# Altium integrated library Passive.IntLib: 1327 symbols (part 2 of 10)
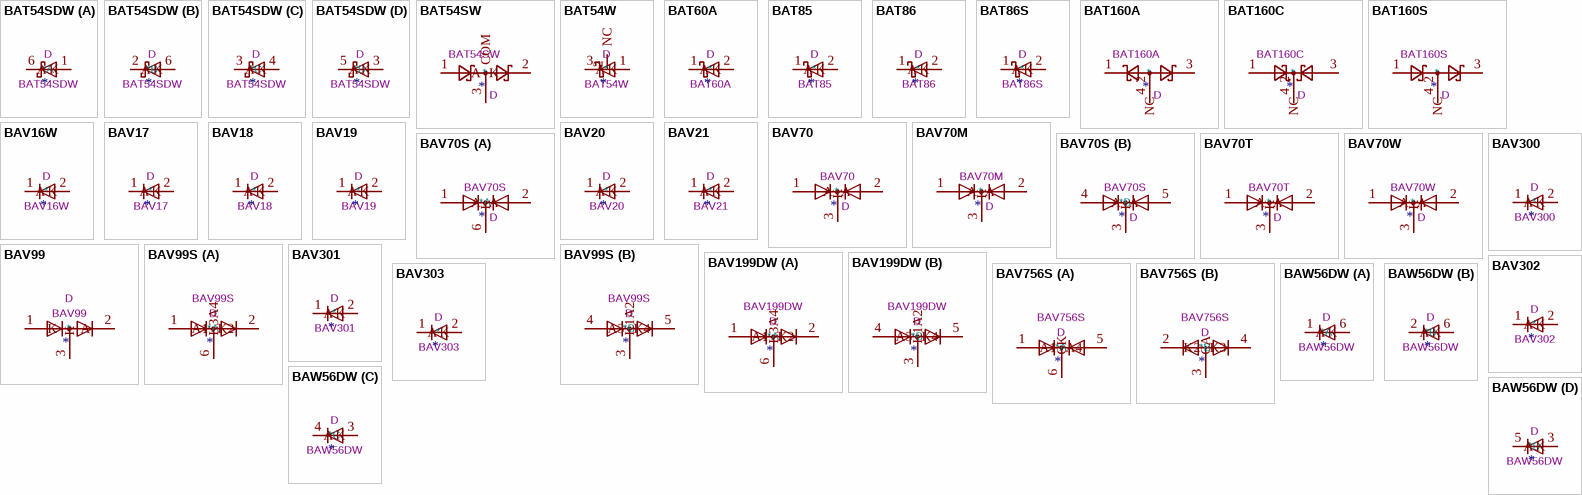
[diagram p42: symbols BAT54SDW to BAW56DW]

## BAV301
designator *  value BAV301  Reference: D
100V 0.25A Switching Diode, High Voltage, MicroMELF; Sim.Pins: 1=K 2=A; ki_fp_filters: D*MicroMELF*; Footprint: Diode_SMD:D_MicroMELF; Datasheet: http://www.vishay.com/docs/85545/bav300.pdf; Description_: 100V 0.25A Switching Diode, High Voltage, MicroMELF; Sim.Device: D; ki_keywords: diode
pins: 1 K, 2 A

## BAV302
designator *  value BAV302  Reference: D
150V 0.25A Switching Diode, High Voltage, MicroMELF; Sim.Pins: 1=K 2=A; ki_fp_filters: D*MicroMELF*; Footprint: Diode_SMD:D_MicroMELF; Datasheet: http://www.vishay.com/docs/85545/bav300.pdf; Description_: 150V 0.25A Switching Diode, High Voltage, MicroMELF; Sim.Device: D; ki_keywords: diode
pins: 1 K, 2 A

## BAV303
designator *  value BAV303  Reference: D
200V 0.25A Switching Diode, High Voltage, MicroMELF; Sim.Pins: 1=K 2=A; ki_fp_filters: D*MicroMELF*; Footprint: Diode_SMD:D_MicroMELF; Datasheet: http://www.vishay.com/docs/85545/bav300.pdf; Description_: 200V 0.25A Switching Diode, High Voltage, MicroMELF; Sim.Device: D; ki_keywords: diode
pins: 1 K, 2 A

## BAV756S
designator *  value BAV756S  Reference: D
High-speed switching diodes, dual common anode/common cathode, SOT-363; ki_keywords: Diode; ki_fp_filters: SOT?363*; Footprint: Package_TO_SOT_SMD:SOT-363_SC-70-6; Datasheet: https://assets.nexperia.com/documents/data-sheet/BAV756S_BAW56_SER.pdf; Description_: High-speed switching diodes, dual common anode/common cathode, SOT-363
part A pins: 1 A1, 5 A4, 6 CK
part B pins: 2 K2, 3 CA, 4 K3

## BAW56DW
designator *  value BAW56DW  Reference: D
Switching diode array 2 pair Com A; ki_fp_filters: SOT?363*; Footprint: Package_TO_SOT_SMD:SOT-363_SC-70-6; Datasheet: http://www.diodes.com/datasheets/ds30146.pdf; Description_: Switching diode array 2 pair Com A; ki_keywords: diode
part A pins: 1 K, 6 A
part B pins: 2 K, 6 A
part C pins: 3 A, 4 K
part D pins: 3 A, 5 K

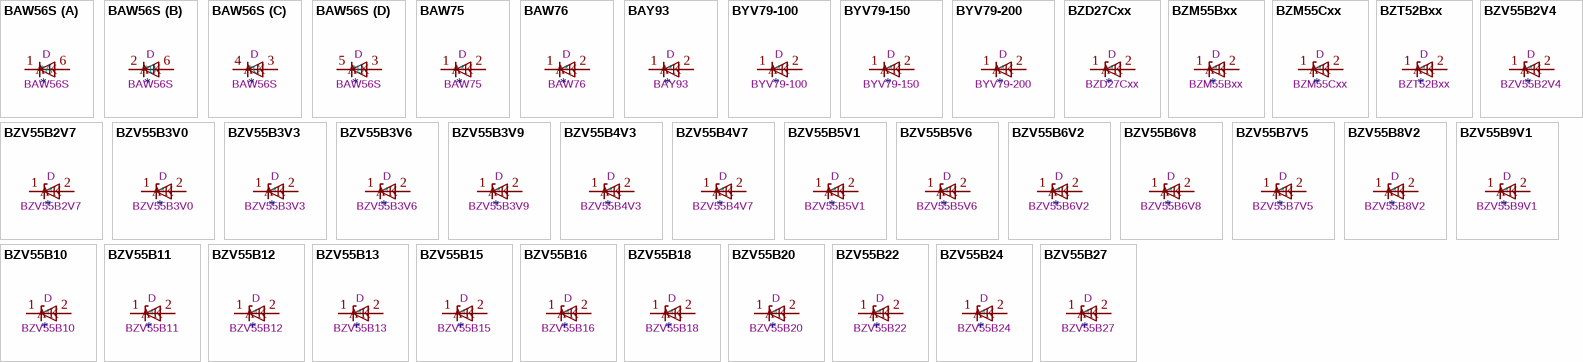
[diagram p4: symbols BAW56S to BZV55B27]

## BAW56S
designator *  value BAW56S  Reference: D
High Speed Switching Diode Array 2 pair Com A; ki_fp_filters: SOT?363*; Footprint: Package_TO_SOT_SMD:SOT-363_SC-70-6; Datasheet: https://assets.nexperia.com/documents/data-sheet/BAV756S_BAW56_SER.pdf; Description_: High Speed Switching Diode Array 2 pair Com A; ki_keywords: diode
part A pins: 1 K, 6 A
part B pins: 2 K, 6 A
part C pins: 3 A, 4 K
part D pins: 3 A, 5 K

## BAW75
designator *  value BAW75  Reference: D
25V 0.45A Small Signal Switching Diode, DO-35; Sim.Pins: 1=K 2=A; ki_fp_filters: D*DO?35*; Footprint: Diode_THT:D_DO-35_SOD27_P7.62mm_Horizontal; Datasheet: http://www.vishay.com/docs/85550/baw75.pdf; Description_: 25V 0.45A Small Signal Switching Diode, DO-35; Sim.Device: D; ki_keywords: diode
pins: 1 K, 2 A

## BAW76
designator *  value BAW76  Reference: D
50V 0.3A Small Signal Fast Switching Diode, DO-35; Sim.Pins: 1=K 2=A; ki_fp_filters: D*DO?35*; Footprint: Diode_THT:D_DO-35_SOD27_P7.62mm_Horizontal; Datasheet: http://www.vishay.com/docs/85551/baw76.pdf; Description_: 50V 0.3A Small Signal Fast Switching Diode, DO-35; Sim.Device: D; ki_keywords: diode
pins: 1 K, 2 A

## BAY93
designator *  value BAY93  Reference: D
20V 0.115A Very Fast Switching Diode, DO-35; Sim.Pins: 1=K 2=A; ki_fp_filters: D*DO?35*; Footprint: Diode_THT:D_DO-35_SOD27_P7.62mm_Horizontal; Datasheet: https://cdn-reichelt.de/documents/datenblatt/A400/BAY93_TFK.pdf; Description_: 20V 0.115A Very Fast Switching Diode, DO-35; Sim.Device: D; ki_keywords: diode
pins: 1 K, 2 A

## BYV79-100
designator *  value BYV79-100  Reference: D
100V 14A Ultrafast Rectifier Diode, TO-220; Sim.Pins: 1=K 2=A; ki_fp_filters: TO?220*; Footprint: Package_TO_SOT_THT:TO-220-2_Vertical; Datasheet: http://pdf.datasheetcatalog.com/datasheet/philips/BYV79-100.pdf; Description_: 100V 14A Ultrafast Rectifier Diode, TO-220; Sim.Device: D; ki_keywords: diode
pins: 1 K, 2 A

## BYV79-150
designator *  value BYV79-150  Reference: D
150V 14A Ultrafast Rectifier Diode, TO-220; Sim.Pins: 1=K 2=A; ki_fp_filters: TO?220*; Footprint: Package_TO_SOT_THT:TO-220-2_Vertical; Datasheet: http://pdf.datasheetcatalog.com/datasheet/philips/BYV79-100.pdf; Description_: 150V 14A Ultrafast Rectifier Diode, TO-220; Sim.Device: D; ki_keywords: diode
pins: 1 K, 2 A

## BYV79-200
designator *  value BYV79-200  Reference: D
200V 14A Ultrafast Rectifier Diode, TO-220; Sim.Pins: 1=K 2=A; ki_fp_filters: TO?220*; Footprint: Package_TO_SOT_THT:TO-220-2_Vertical; Datasheet: http://pdf.datasheetcatalog.com/datasheet/philips/BYV79-100.pdf; Description_: 200V 14A Ultrafast Rectifier Diode, TO-220; Sim.Device: D; ki_keywords: diode
pins: 1 K, 2 A

## BZD27Cxx
designator *  value BZD27Cxx  Reference: D
800mW Zener Diode, 3.6-200V, SMF; ki_fp_filters: D*SMF*; Footprint: Diode_SMD:D_SMF; Datasheet: https://www.vishay.com/docs/85153/bzd27series.pdf; Description_: 800mW Zener Diode, 3.6-200V, SMF; ki_keywords: zener diode
pins: 1 K, 2 A

## BZM55Bxx
designator *  value BZM55Bxx  Reference: D
500mW Zener Diode, 2%, MicroMELF; ki_fp_filters: D*MicroMELF*; Footprint: Diode_SMD:D_MicroMELF; Datasheet: http://www.vishay.com/docs/85597/bzm55.pdf; Description_: 500mW Zener Diode, 2%, MicroMELF; ki_keywords: zener diode
pins: 1 K, 2 A

## BZM55Cxx
designator *  value BZM55Cxx  Reference: D
500mW Zener Diode, 6%, MicroMELF; ki_fp_filters: D*MicroMELF*; Footprint: Diode_SMD:D_MicroMELF; Datasheet: http://www.vishay.com/docs/85597/bzm55.pdf; Description_: 500mW Zener Diode, 6%, MicroMELF; ki_keywords: zener diode
pins: 1 K, 2 A

## BZT52Bxx
designator *  value BZT52Bxx  Reference: D
500mW Zener Diode, SOD-123F; ki_fp_filters: D?SOD?123F*; Footprint: Diode_SMD:D_SOD-123F; Datasheet: https://diotec.com/tl_files/diotec/files/pdf/datasheets/bzt52b2v4.pdf; Description_: 500mW Zener Diode, SOD-123F; ki_keywords: zener diode
pins: 1 K, 2 A

## BZV55B2V4
designator *  value BZV55B2V4  Reference: D
2.4V, 500mW, 2%, Zener diode, MiniMELF; ki_fp_filters: D*MiniMELF*; Footprint: Diode_SMD:D_MiniMELF; Datasheet: https://assets.nexperia.com/documents/data-sheet/BZV55_SER.pdf; Description_: 2.4V, 500mW, 2%, Zener diode, MiniMELF; ki_keywords: zener diode
pins: 1 K, 2 A

## BZV55B2V7
designator *  value BZV55B2V7  Reference: D
2.7V, 500mW, 2%, Zener diode, MiniMELF; ki_fp_filters: D*MiniMELF*; Footprint: Diode_SMD:D_MiniMELF; Datasheet: https://assets.nexperia.com/documents/data-sheet/BZV55_SER.pdf; Description_: 2.7V, 500mW, 2%, Zener diode, MiniMELF; ki_keywords: zener diode
pins: 1 K, 2 A

## BZV55B3V0
designator *  value BZV55B3V0  Reference: D
3.0V, 500mW, 2%, Zener diode, MiniMELF; ki_fp_filters: D*MiniMELF*; Footprint: Diode_SMD:D_MiniMELF; Datasheet: https://assets.nexperia.com/documents/data-sheet/BZV55_SER.pdf; Description_: 3.0V, 500mW, 2%, Zener diode, MiniMELF; ki_keywords: zener diode
pins: 1 K, 2 A

## BZV55B3V3
designator *  value BZV55B3V3  Reference: D
3.3V, 500mW, 2%, Zener diode, MiniMELF; ki_fp_filters: D*MiniMELF*; Footprint: Diode_SMD:D_MiniMELF; Datasheet: https://assets.nexperia.com/documents/data-sheet/BZV55_SER.pdf; Description_: 3.3V, 500mW, 2%, Zener diode, MiniMELF; ki_keywords: zener diode
pins: 1 K, 2 A

## BZV55B3V6
designator *  value BZV55B3V6  Reference: D
3.6V, 500mW, 2%, Zener diode, MiniMELF; ki_fp_filters: D*MiniMELF*; Footprint: Diode_SMD:D_MiniMELF; Datasheet: https://assets.nexperia.com/documents/data-sheet/BZV55_SER.pdf; Description_: 3.6V, 500mW, 2%, Zener diode, MiniMELF; ki_keywords: zener diode
pins: 1 K, 2 A

## BZV55B3V9
designator *  value BZV55B3V9  Reference: D
3.9V, 500mW, 2%, Zener diode, MiniMELF; ki_fp_filters: D*MiniMELF*; Footprint: Diode_SMD:D_MiniMELF; Datasheet: https://assets.nexperia.com/documents/data-sheet/BZV55_SER.pdf; Description_: 3.9V, 500mW, 2%, Zener diode, MiniMELF; ki_keywords: zener diode
pins: 1 K, 2 A

## BZV55B4V3
designator *  value BZV55B4V3  Reference: D
4.3V, 500mW, 2%, Zener diode, MiniMELF; ki_fp_filters: D*MiniMELF*; Footprint: Diode_SMD:D_MiniMELF; Datasheet: https://assets.nexperia.com/documents/data-sheet/BZV55_SER.pdf; Description_: 4.3V, 500mW, 2%, Zener diode, MiniMELF; ki_keywords: zener diode
pins: 1 K, 2 A

## BZV55B4V7
designator *  value BZV55B4V7  Reference: D
4.7V, 500mW, 2%, Zener diode, MiniMELF; ki_fp_filters: D*MiniMELF*; Footprint: Diode_SMD:D_MiniMELF; Datasheet: https://assets.nexperia.com/documents/data-sheet/BZV55_SER.pdf; Description_: 4.7V, 500mW, 2%, Zener diode, MiniMELF; ki_keywords: zener diode
pins: 1 K, 2 A

## BZV55B5V1
designator *  value BZV55B5V1  Reference: D
5.1V, 500mW, 2%, Zener diode, MiniMELF; ki_fp_filters: D*MiniMELF*; Footprint: Diode_SMD:D_MiniMELF; Datasheet: https://assets.nexperia.com/documents/data-sheet/BZV55_SER.pdf; Description_: 5.1V, 500mW, 2%, Zener diode, MiniMELF; ki_keywords: zener diode
pins: 1 K, 2 A

## BZV55B5V6
designator *  value BZV55B5V6  Reference: D
5.6V, 500mW, 2%, Zener diode, MiniMELF; ki_fp_filters: D*MiniMELF*; Footprint: Diode_SMD:D_MiniMELF; Datasheet: https://assets.nexperia.com/documents/data-sheet/BZV55_SER.pdf; Description_: 5.6V, 500mW, 2%, Zener diode, MiniMELF; ki_keywords: zener diode
pins: 1 K, 2 A

## BZV55B6V2
designator *  value BZV55B6V2  Reference: D
6.2V, 500mW, 2%, Zener diode, MiniMELF; ki_fp_filters: D*MiniMELF*; Footprint: Diode_SMD:D_MiniMELF; Datasheet: https://assets.nexperia.com/documents/data-sheet/BZV55_SER.pdf; Description_: 6.2V, 500mW, 2%, Zener diode, MiniMELF; ki_keywords: zener diode
pins: 1 K, 2 A

## BZV55B6V8
designator *  value BZV55B6V8  Reference: D
6.8V, 500mW, 2%, Zener diode, MiniMELF; ki_fp_filters: D*MiniMELF*; Footprint: Diode_SMD:D_MiniMELF; Datasheet: https://assets.nexperia.com/documents/data-sheet/BZV55_SER.pdf; Description_: 6.8V, 500mW, 2%, Zener diode, MiniMELF; ki_keywords: zener diode
pins: 1 K, 2 A

## BZV55B7V5
designator *  value BZV55B7V5  Reference: D
7.5V, 500mW, 2%, Zener diode, MiniMELF; ki_fp_filters: D*MiniMELF*; Footprint: Diode_SMD:D_MiniMELF; Datasheet: https://assets.nexperia.com/documents/data-sheet/BZV55_SER.pdf; Description_: 7.5V, 500mW, 2%, Zener diode, MiniMELF; ki_keywords: zener diode
pins: 1 K, 2 A

## BZV55B8V2
designator *  value BZV55B8V2  Reference: D
8.2V, 500mW, 2%, Zener diode, MiniMELF; ki_fp_filters: D*MiniMELF*; Footprint: Diode_SMD:D_MiniMELF; Datasheet: https://assets.nexperia.com/documents/data-sheet/BZV55_SER.pdf; Description_: 8.2V, 500mW, 2%, Zener diode, MiniMELF; ki_keywords: zener diode
pins: 1 K, 2 A

## BZV55B9V1
designator *  value BZV55B9V1  Reference: D
9.1V, 500mW, 2%, Zener diode, MiniMELF; ki_fp_filters: D*MiniMELF*; Footprint: Diode_SMD:D_MiniMELF; Datasheet: https://assets.nexperia.com/documents/data-sheet/BZV55_SER.pdf; Description_: 9.1V, 500mW, 2%, Zener diode, MiniMELF; ki_keywords: zener diode
pins: 1 K, 2 A

## BZV55B10
designator *  value BZV55B10  Reference: D
10V, 500mW, 2%, Zener diode, MiniMELF; ki_fp_filters: D*MiniMELF*; Footprint: Diode_SMD:D_MiniMELF; Datasheet: https://assets.nexperia.com/documents/data-sheet/BZV55_SER.pdf; Description_: 10V, 500mW, 2%, Zener diode, MiniMELF; ki_keywords: zener diode
pins: 1 K, 2 A

## BZV55B11
designator *  value BZV55B11  Reference: D
11V, 500mW, 2%, Zener diode, MiniMELF; ki_fp_filters: D*MiniMELF*; Footprint: Diode_SMD:D_MiniMELF; Datasheet: https://assets.nexperia.com/documents/data-sheet/BZV55_SER.pdf; Description_: 11V, 500mW, 2%, Zener diode, MiniMELF; ki_keywords: zener diode
pins: 1 K, 2 A

## BZV55B12
designator *  value BZV55B12  Reference: D
12V, 500mW, 2%, Zener diode, MiniMELF; ki_fp_filters: D*MiniMELF*; Footprint: Diode_SMD:D_MiniMELF; Datasheet: https://assets.nexperia.com/documents/data-sheet/BZV55_SER.pdf; Description_: 12V, 500mW, 2%, Zener diode, MiniMELF; ki_keywords: zener diode
pins: 1 K, 2 A

## BZV55B13
designator *  value BZV55B13  Reference: D
13V, 500mW, 2%, Zener diode, MiniMELF; ki_fp_filters: D*MiniMELF*; Footprint: Diode_SMD:D_MiniMELF; Datasheet: https://assets.nexperia.com/documents/data-sheet/BZV55_SER.pdf; Description_: 13V, 500mW, 2%, Zener diode, MiniMELF; ki_keywords: zener diode
pins: 1 K, 2 A

## BZV55B15
designator *  value BZV55B15  Reference: D
15V, 500mW, 2%, Zener diode, MiniMELF; ki_fp_filters: D*MiniMELF*; Footprint: Diode_SMD:D_MiniMELF; Datasheet: https://assets.nexperia.com/documents/data-sheet/BZV55_SER.pdf; Description_: 15V, 500mW, 2%, Zener diode, MiniMELF; ki_keywords: zener diode
pins: 1 K, 2 A

## BZV55B16
designator *  value BZV55B16  Reference: D
16V, 500mW, 2%, Zener diode, MiniMELF; ki_fp_filters: D*MiniMELF*; Footprint: Diode_SMD:D_MiniMELF; Datasheet: https://assets.nexperia.com/documents/data-sheet/BZV55_SER.pdf; Description_: 16V, 500mW, 2%, Zener diode, MiniMELF; ki_keywords: zener diode
pins: 1 K, 2 A

## BZV55B18
designator *  value BZV55B18  Reference: D
18V, 500mW, 2%, Zener diode, MiniMELF; ki_fp_filters: D*MiniMELF*; Footprint: Diode_SMD:D_MiniMELF; Datasheet: https://assets.nexperia.com/documents/data-sheet/BZV55_SER.pdf; Description_: 18V, 500mW, 2%, Zener diode, MiniMELF; ki_keywords: zener diode
pins: 1 K, 2 A

## BZV55B20
designator *  value BZV55B20  Reference: D
20V, 500mW, 2%, Zener diode, MiniMELF; ki_fp_filters: D*MiniMELF*; Footprint: Diode_SMD:D_MiniMELF; Datasheet: https://assets.nexperia.com/documents/data-sheet/BZV55_SER.pdf; Description_: 20V, 500mW, 2%, Zener diode, MiniMELF; ki_keywords: zener diode
pins: 1 K, 2 A

## BZV55B22
designator *  value BZV55B22  Reference: D
22V, 500mW, 2%, Zener diode, MiniMELF; ki_fp_filters: D*MiniMELF*; Footprint: Diode_SMD:D_MiniMELF; Datasheet: https://assets.nexperia.com/documents/data-sheet/BZV55_SER.pdf; Description_: 22V, 500mW, 2%, Zener diode, MiniMELF; ki_keywords: zener diode
pins: 1 K, 2 A

## BZV55B24
designator *  value BZV55B24  Reference: D
24V, 500mW, 2%, Zener diode, MiniMELF; ki_fp_filters: D*MiniMELF*; Footprint: Diode_SMD:D_MiniMELF; Datasheet: https://assets.nexperia.com/documents/data-sheet/BZV55_SER.pdf; Description_: 24V, 500mW, 2%, Zener diode, MiniMELF; ki_keywords: zener diode
pins: 1 K, 2 A

## BZV55B27
designator *  value BZV55B27  Reference: D
2.4V, 500mW, 2%, Zener diode, MiniMELF; ki_fp_filters: D*MiniMELF*; Footprint: Diode_SMD:D_MiniMELF; Datasheet: https://assets.nexperia.com/documents/data-sheet/BZV55_SER.pdf; Description_: 2.4V, 500mW, 2%, Zener diode, MiniMELF; ki_keywords: zener diode
pins: 1 K, 2 A

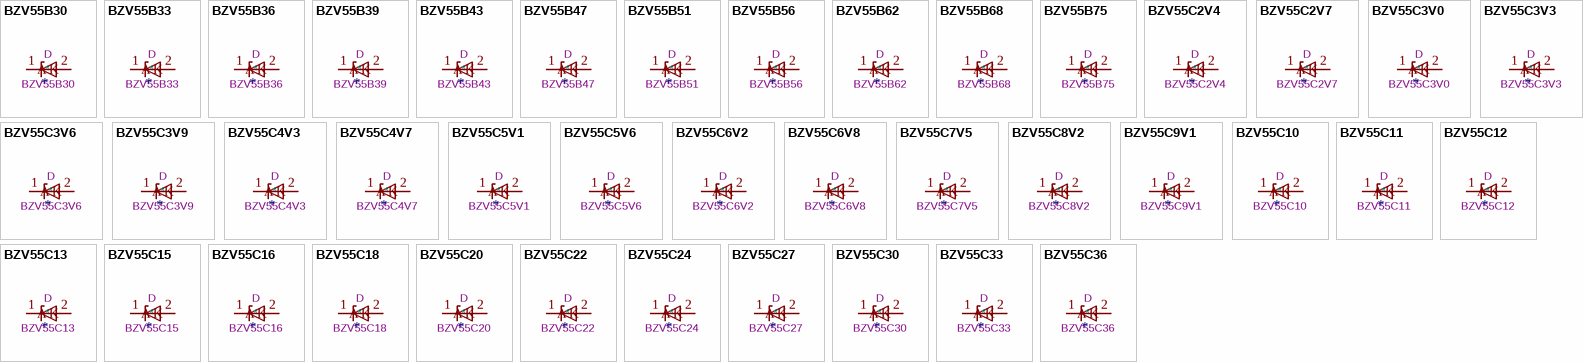
[diagram p5: symbols BZV55B30 to BZV55C36]

## BZV55B30
designator *  value BZV55B30  Reference: D
30V, 500mW, 2%, Zener diode, MiniMELF; ki_fp_filters: D*MiniMELF*; Footprint: Diode_SMD:D_MiniMELF; Datasheet: https://assets.nexperia.com/documents/data-sheet/BZV55_SER.pdf; Description_: 30V, 500mW, 2%, Zener diode, MiniMELF; ki_keywords: zener diode
pins: 1 K, 2 A

## BZV55B33
designator *  value BZV55B33  Reference: D
33V, 500mW, 2%, Zener diode, MiniMELF; ki_fp_filters: D*MiniMELF*; Footprint: Diode_SMD:D_MiniMELF; Datasheet: https://assets.nexperia.com/documents/data-sheet/BZV55_SER.pdf; Description_: 33V, 500mW, 2%, Zener diode, MiniMELF; ki_keywords: zener diode
pins: 1 K, 2 A

## BZV55B36
designator *  value BZV55B36  Reference: D
36V, 500mW, 2%, Zener diode, MiniMELF; ki_fp_filters: D*MiniMELF*; Footprint: Diode_SMD:D_MiniMELF; Datasheet: https://assets.nexperia.com/documents/data-sheet/BZV55_SER.pdf; Description_: 36V, 500mW, 2%, Zener diode, MiniMELF; ki_keywords: zener diode
pins: 1 K, 2 A

## BZV55B39
designator *  value BZV55B39  Reference: D
39V, 500mW, 2%, Zener diode, MiniMELF; ki_fp_filters: D*MiniMELF*; Footprint: Diode_SMD:D_MiniMELF; Datasheet: https://assets.nexperia.com/documents/data-sheet/BZV55_SER.pdf; Description_: 39V, 500mW, 2%, Zener diode, MiniMELF; ki_keywords: zener diode
pins: 1 K, 2 A

## BZV55B43
designator *  value BZV55B43  Reference: D
43V, 500mW, 2%, Zener diode, MiniMELF; ki_fp_filters: D*MiniMELF*; Footprint: Diode_SMD:D_MiniMELF; Datasheet: https://assets.nexperia.com/documents/data-sheet/BZV55_SER.pdf; Description_: 43V, 500mW, 2%, Zener diode, MiniMELF; ki_keywords: zener diode
pins: 1 K, 2 A

## BZV55B47
designator *  value BZV55B47  Reference: D
47V, 500mW, 2%, Zener diode, MiniMELF; ki_fp_filters: D*MiniMELF*; Footprint: Diode_SMD:D_MiniMELF; Datasheet: https://assets.nexperia.com/documents/data-sheet/BZV55_SER.pdf; Description_: 47V, 500mW, 2%, Zener diode, MiniMELF; ki_keywords: zener diode
pins: 1 K, 2 A

## BZV55B51
designator *  value BZV55B51  Reference: D
51V, 500mW, 2%, Zener diode, MiniMELF; ki_fp_filters: D*MiniMELF*; Footprint: Diode_SMD:D_MiniMELF; Datasheet: https://assets.nexperia.com/documents/data-sheet/BZV55_SER.pdf; Description_: 51V, 500mW, 2%, Zener diode, MiniMELF; ki_keywords: zener diode
pins: 1 K, 2 A

## BZV55B56
designator *  value BZV55B56  Reference: D
56V, 500mW, 2%, Zener diode, MiniMELF; ki_fp_filters: D*MiniMELF*; Footprint: Diode_SMD:D_MiniMELF; Datasheet: https://assets.nexperia.com/documents/data-sheet/BZV55_SER.pdf; Description_: 56V, 500mW, 2%, Zener diode, MiniMELF; ki_keywords: zener diode
pins: 1 K, 2 A

## BZV55B62
designator *  value BZV55B62  Reference: D
62V, 500mW, 2%, Zener diode, MiniMELF; ki_fp_filters: D*MiniMELF*; Footprint: Diode_SMD:D_MiniMELF; Datasheet: https://assets.nexperia.com/documents/data-sheet/BZV55_SER.pdf; Description_: 62V, 500mW, 2%, Zener diode, MiniMELF; ki_keywords: zener diode
pins: 1 K, 2 A

## BZV55B68
designator *  value BZV55B68  Reference: D
68V, 500mW, 2%, Zener diode, MiniMELF; ki_fp_filters: D*MiniMELF*; Footprint: Diode_SMD:D_MiniMELF; Datasheet: https://assets.nexperia.com/documents/data-sheet/BZV55_SER.pdf; Description_: 68V, 500mW, 2%, Zener diode, MiniMELF; ki_keywords: zener diode
pins: 1 K, 2 A

## BZV55B75
designator *  value BZV55B75  Reference: D
75V, 500mW, 2%, Zener diode, MiniMELF; ki_fp_filters: D*MiniMELF*; Footprint: Diode_SMD:D_MiniMELF; Datasheet: https://assets.nexperia.com/documents/data-sheet/BZV55_SER.pdf; Description_: 75V, 500mW, 2%, Zener diode, MiniMELF; ki_keywords: zener diode
pins: 1 K, 2 A

## BZV55C2V4
designator *  value BZV55C2V4  Reference: D
2.4V, 500mW, 5%, Zener diode, MiniMELF; ki_fp_filters: D*MiniMELF*; Footprint: Diode_SMD:D_MiniMELF; Datasheet: https://assets.nexperia.com/documents/data-sheet/BZV55_SER.pdf; Description_: 2.4V, 500mW, 5%, Zener diode, MiniMELF; ki_keywords: zener diode
pins: 1 K, 2 A

## BZV55C2V7
designator *  value BZV55C2V7  Reference: D
2.7V, 500mW, 5%, Zener diode, MiniMELF; ki_fp_filters: D*MiniMELF*; Footprint: Diode_SMD:D_MiniMELF; Datasheet: https://assets.nexperia.com/documents/data-sheet/BZV55_SER.pdf; Description_: 2.7V, 500mW, 5%, Zener diode, MiniMELF; ki_keywords: zener diode
pins: 1 K, 2 A

## BZV55C3V0
designator *  value BZV55C3V0  Reference: D
3.0V, 500mW, 5%, Zener diode, MiniMELF; ki_fp_filters: D*MiniMELF*; Footprint: Diode_SMD:D_MiniMELF; Datasheet: https://assets.nexperia.com/documents/data-sheet/BZV55_SER.pdf; Description_: 3.0V, 500mW, 5%, Zener diode, MiniMELF; ki_keywords: zener diode
pins: 1 K, 2 A

## BZV55C3V3
designator *  value BZV55C3V3  Reference: D
3.3V, 500mW, 5%, Zener diode, MiniMELF; ki_fp_filters: D*MiniMELF*; Footprint: Diode_SMD:D_MiniMELF; Datasheet: https://assets.nexperia.com/documents/data-sheet/BZV55_SER.pdf; Description_: 3.3V, 500mW, 5%, Zener diode, MiniMELF; ki_keywords: zener diode
pins: 1 K, 2 A

## BZV55C3V6
designator *  value BZV55C3V6  Reference: D
3.6V, 500mW, 5%, Zener diode, MiniMELF; ki_fp_filters: D*MiniMELF*; Footprint: Diode_SMD:D_MiniMELF; Datasheet: https://assets.nexperia.com/documents/data-sheet/BZV55_SER.pdf; Description_: 3.6V, 500mW, 5%, Zener diode, MiniMELF; ki_keywords: zener diode
pins: 1 K, 2 A

## BZV55C3V9
designator *  value BZV55C3V9  Reference: D
3.9V, 500mW, 5%, Zener diode, MiniMELF; ki_fp_filters: D*MiniMELF*; Footprint: Diode_SMD:D_MiniMELF; Datasheet: https://assets.nexperia.com/documents/data-sheet/BZV55_SER.pdf; Description_: 3.9V, 500mW, 5%, Zener diode, MiniMELF; ki_keywords: zener diode
pins: 1 K, 2 A

## BZV55C4V3
designator *  value BZV55C4V3  Reference: D
4.3V, 500mW, 5%, Zener diode, MiniMELF; ki_fp_filters: D*MiniMELF*; Footprint: Diode_SMD:D_MiniMELF; Datasheet: https://assets.nexperia.com/documents/data-sheet/BZV55_SER.pdf; Description_: 4.3V, 500mW, 5%, Zener diode, MiniMELF; ki_keywords: zener diode
pins: 1 K, 2 A

## BZV55C4V7
designator *  value BZV55C4V7  Reference: D
4.7V, 500mW, 5%, Zener diode, MiniMELF; ki_fp_filters: D*MiniMELF*; Footprint: Diode_SMD:D_MiniMELF; Datasheet: https://assets.nexperia.com/documents/data-sheet/BZV55_SER.pdf; Description_: 4.7V, 500mW, 5%, Zener diode, MiniMELF; ki_keywords: zener diode
pins: 1 K, 2 A

## BZV55C5V1
designator *  value BZV55C5V1  Reference: D
5.1V, 500mW, 5%, Zener diode, MiniMELF; ki_fp_filters: D*MiniMELF*; Footprint: Diode_SMD:D_MiniMELF; Datasheet: https://assets.nexperia.com/documents/data-sheet/BZV55_SER.pdf; Description_: 5.1V, 500mW, 5%, Zener diode, MiniMELF; ki_keywords: zener diode
pins: 1 K, 2 A

## BZV55C5V6
designator *  value BZV55C5V6  Reference: D
5.6V, 500mW, 5%, Zener diode, MiniMELF; ki_fp_filters: D*MiniMELF*; Footprint: Diode_SMD:D_MiniMELF; Datasheet: https://assets.nexperia.com/documents/data-sheet/BZV55_SER.pdf; Description_: 5.6V, 500mW, 5%, Zener diode, MiniMELF; ki_keywords: zener diode
pins: 1 K, 2 A

## BZV55C6V2
designator *  value BZV55C6V2  Reference: D
6.2V, 500mW, 5%, Zener diode, MiniMELF; ki_fp_filters: D*MiniMELF*; Footprint: Diode_SMD:D_MiniMELF; Datasheet: https://assets.nexperia.com/documents/data-sheet/BZV55_SER.pdf; Description_: 6.2V, 500mW, 5%, Zener diode, MiniMELF; ki_keywords: zener diode
pins: 1 K, 2 A

## BZV55C6V8
designator *  value BZV55C6V8  Reference: D
6.8V, 500mW, 5%, Zener diode, MiniMELF; ki_fp_filters: D*MiniMELF*; Footprint: Diode_SMD:D_MiniMELF; Datasheet: https://assets.nexperia.com/documents/data-sheet/BZV55_SER.pdf; Description_: 6.8V, 500mW, 5%, Zener diode, MiniMELF; ki_keywords: zener diode
pins: 1 K, 2 A

## BZV55C7V5
designator *  value BZV55C7V5  Reference: D
7.5V, 500mW, 5%, Zener diode, MiniMELF; ki_fp_filters: D*MiniMELF*; Footprint: Diode_SMD:D_MiniMELF; Datasheet: https://assets.nexperia.com/documents/data-sheet/BZV55_SER.pdf; Description_: 7.5V, 500mW, 5%, Zener diode, MiniMELF; ki_keywords: zener diode
pins: 1 K, 2 A

## BZV55C8V2
designator *  value BZV55C8V2  Reference: D
8.2V, 500mW, 5%, Zener diode, MiniMELF; ki_fp_filters: D*MiniMELF*; Footprint: Diode_SMD:D_MiniMELF; Datasheet: https://assets.nexperia.com/documents/data-sheet/BZV55_SER.pdf; Description_: 8.2V, 500mW, 5%, Zener diode, MiniMELF; ki_keywords: zener diode
pins: 1 K, 2 A

## BZV55C9V1
designator *  value BZV55C9V1  Reference: D
9.1V, 500mW, 5%, Zener diode, MiniMELF; ki_fp_filters: D*MiniMELF*; Footprint: Diode_SMD:D_MiniMELF; Datasheet: https://assets.nexperia.com/documents/data-sheet/BZV55_SER.pdf; Description_: 9.1V, 500mW, 5%, Zener diode, MiniMELF; ki_keywords: zener diode
pins: 1 K, 2 A

## BZV55C10
designator *  value BZV55C10  Reference: D
10V, 500mW, 5%, Zener diode, MiniMELF; ki_fp_filters: D*MiniMELF*; Footprint: Diode_SMD:D_MiniMELF; Datasheet: https://assets.nexperia.com/documents/data-sheet/BZV55_SER.pdf; Description_: 10V, 500mW, 5%, Zener diode, MiniMELF; ki_keywords: zener diode
pins: 1 K, 2 A

## BZV55C11
designator *  value BZV55C11  Reference: D
11V, 500mW, 5%, Zener diode, MiniMELF; ki_fp_filters: D*MiniMELF*; Footprint: Diode_SMD:D_MiniMELF; Datasheet: https://assets.nexperia.com/documents/data-sheet/BZV55_SER.pdf; Description_: 11V, 500mW, 5%, Zener diode, MiniMELF; ki_keywords: zener diode
pins: 1 K, 2 A

## BZV55C12
designator *  value BZV55C12  Reference: D
12V, 500mW, 5%, Zener diode, MiniMELF; ki_fp_filters: D*MiniMELF*; Footprint: Diode_SMD:D_MiniMELF; Datasheet: https://assets.nexperia.com/documents/data-sheet/BZV55_SER.pdf; Description_: 12V, 500mW, 5%, Zener diode, MiniMELF; ki_keywords: zener diode
pins: 1 K, 2 A

## BZV55C13
designator *  value BZV55C13  Reference: D
13V, 500mW, 5%, Zener diode, MiniMELF; ki_fp_filters: D*MiniMELF*; Footprint: Diode_SMD:D_MiniMELF; Datasheet: https://assets.nexperia.com/documents/data-sheet/BZV55_SER.pdf; Description_: 13V, 500mW, 5%, Zener diode, MiniMELF; ki_keywords: zener diode
pins: 1 K, 2 A

## BZV55C15
designator *  value BZV55C15  Reference: D
15V, 500mW, 5%, Zener diode, MiniMELF; ki_fp_filters: D*MiniMELF*; Footprint: Diode_SMD:D_MiniMELF; Datasheet: https://assets.nexperia.com/documents/data-sheet/BZV55_SER.pdf; Description_: 15V, 500mW, 5%, Zener diode, MiniMELF; ki_keywords: zener diode
pins: 1 K, 2 A

## BZV55C16
designator *  value BZV55C16  Reference: D
16V, 500mW, 5%, Zener diode, MiniMELF; ki_fp_filters: D*MiniMELF*; Footprint: Diode_SMD:D_MiniMELF; Datasheet: https://assets.nexperia.com/documents/data-sheet/BZV55_SER.pdf; Description_: 16V, 500mW, 5%, Zener diode, MiniMELF; ki_keywords: zener diode
pins: 1 K, 2 A

## BZV55C18
designator *  value BZV55C18  Reference: D
18V, 500mW, 5%, Zener diode, MiniMELF; ki_fp_filters: D*MiniMELF*; Footprint: Diode_SMD:D_MiniMELF; Datasheet: https://assets.nexperia.com/documents/data-sheet/BZV55_SER.pdf; Description_: 18V, 500mW, 5%, Zener diode, MiniMELF; ki_keywords: zener diode
pins: 1 K, 2 A

## BZV55C20
designator *  value BZV55C20  Reference: D
20V, 500mW, 5%, Zener diode, MiniMELF; ki_fp_filters: D*MiniMELF*; Footprint: Diode_SMD:D_MiniMELF; Datasheet: https://assets.nexperia.com/documents/data-sheet/BZV55_SER.pdf; Description_: 20V, 500mW, 5%, Zener diode, MiniMELF; ki_keywords: zener diode
pins: 1 K, 2 A

## BZV55C22
designator *  value BZV55C22  Reference: D
22V, 500mW, 5%, Zener diode, MiniMELF; ki_fp_filters: D*MiniMELF*; Footprint: Diode_SMD:D_MiniMELF; Datasheet: https://assets.nexperia.com/documents/data-sheet/BZV55_SER.pdf; Description_: 22V, 500mW, 5%, Zener diode, MiniMELF; ki_keywords: zener diode
pins: 1 K, 2 A

## BZV55C24
designator *  value BZV55C24  Reference: D
24V, 500mW, 5%, Zener diode, MiniMELF; ki_fp_filters: D*MiniMELF*; Footprint: Diode_SMD:D_MiniMELF; Datasheet: https://assets.nexperia.com/documents/data-sheet/BZV55_SER.pdf; Description_: 24V, 500mW, 5%, Zener diode, MiniMELF; ki_keywords: zener diode
pins: 1 K, 2 A

## BZV55C27
designator *  value BZV55C27  Reference: D
27V, 500mW, 5%, Zener diode, MiniMELF; ki_fp_filters: D*MiniMELF*; Footprint: Diode_SMD:D_MiniMELF; Datasheet: https://assets.nexperia.com/documents/data-sheet/BZV55_SER.pdf; Description_: 27V, 500mW, 5%, Zener diode, MiniMELF; ki_keywords: zener diode
pins: 1 K, 2 A

## BZV55C30
designator *  value BZV55C30  Reference: D
30V, 500mW, 5%, Zener diode, MiniMELF; ki_fp_filters: D*MiniMELF*; Footprint: Diode_SMD:D_MiniMELF; Datasheet: https://assets.nexperia.com/documents/data-sheet/BZV55_SER.pdf; Description_: 30V, 500mW, 5%, Zener diode, MiniMELF; ki_keywords: zener diode
pins: 1 K, 2 A

## BZV55C33
designator *  value BZV55C33  Reference: D
33V, 500mW, 5%, Zener diode, MiniMELF; ki_fp_filters: D*MiniMELF*; Footprint: Diode_SMD:D_MiniMELF; Datasheet: https://assets.nexperia.com/documents/data-sheet/BZV55_SER.pdf; Description_: 33V, 500mW, 5%, Zener diode, MiniMELF; ki_keywords: zener diode
pins: 1 K, 2 A

## BZV55C36
designator *  value BZV55C36  Reference: D
36V, 500mW, 5%, Zener diode, MiniMELF; ki_fp_filters: D*MiniMELF*; Footprint: Diode_SMD:D_MiniMELF; Datasheet: https://assets.nexperia.com/documents/data-sheet/BZV55_SER.pdf; Description_: 36V, 500mW, 5%, Zener diode, MiniMELF; ki_keywords: zener diode
pins: 1 K, 2 A

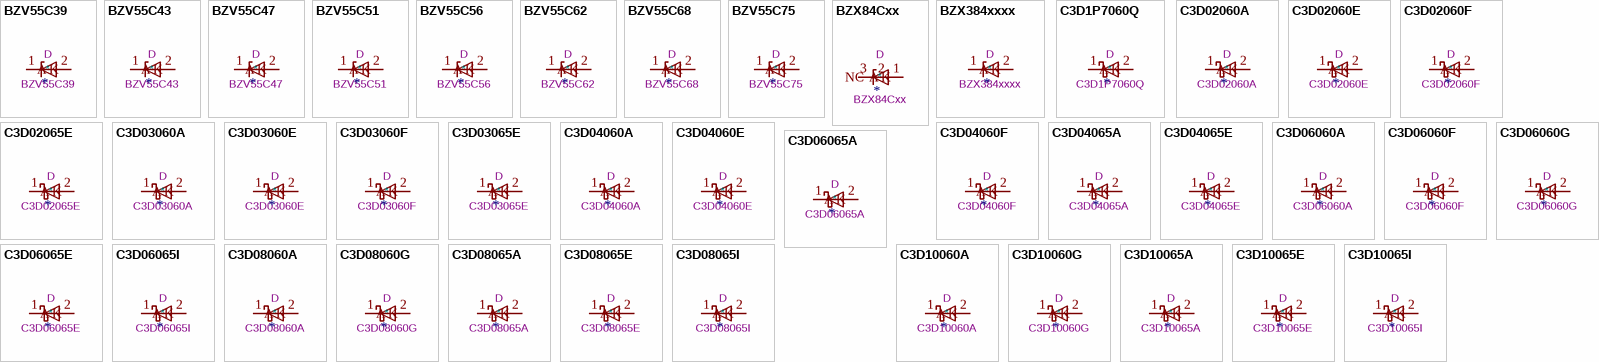
[diagram p6: symbols BZV55C39 to C3D10065I]

## BZV55C39
designator *  value BZV55C39  Reference: D
39V, 500mW, 5%, Zener diode, MiniMELF; ki_fp_filters: D*MiniMELF*; Footprint: Diode_SMD:D_MiniMELF; Datasheet: https://assets.nexperia.com/documents/data-sheet/BZV55_SER.pdf; Description_: 39V, 500mW, 5%, Zener diode, MiniMELF; ki_keywords: zener diode
pins: 1 K, 2 A

## BZV55C43
designator *  value BZV55C43  Reference: D
43V, 500mW, 5%, Zener diode, MiniMELF; ki_fp_filters: D*MiniMELF*; Footprint: Diode_SMD:D_MiniMELF; Datasheet: https://assets.nexperia.com/documents/data-sheet/BZV55_SER.pdf; Description_: 43V, 500mW, 5%, Zener diode, MiniMELF; ki_keywords: zener diode
pins: 1 K, 2 A

## BZV55C47
designator *  value BZV55C47  Reference: D
47V, 500mW, 5%, Zener diode, MiniMELF; ki_fp_filters: D*MiniMELF*; Footprint: Diode_SMD:D_MiniMELF; Datasheet: https://assets.nexperia.com/documents/data-sheet/BZV55_SER.pdf; Description_: 47V, 500mW, 5%, Zener diode, MiniMELF; ki_keywords: zener diode
pins: 1 K, 2 A

## BZV55C51
designator *  value BZV55C51  Reference: D
51V, 500mW, 5%, Zener diode, MiniMELF; ki_fp_filters: D*MiniMELF*; Footprint: Diode_SMD:D_MiniMELF; Datasheet: https://assets.nexperia.com/documents/data-sheet/BZV55_SER.pdf; Description_: 51V, 500mW, 5%, Zener diode, MiniMELF; ki_keywords: zener diode
pins: 1 K, 2 A

## BZV55C56
designator *  value BZV55C56  Reference: D
56V, 500mW, 5%, Zener diode, MiniMELF; ki_fp_filters: D*MiniMELF*; Footprint: Diode_SMD:D_MiniMELF; Datasheet: https://assets.nexperia.com/documents/data-sheet/BZV55_SER.pdf; Description_: 56V, 500mW, 5%, Zener diode, MiniMELF; ki_keywords: zener diode
pins: 1 K, 2 A

## BZV55C62
designator *  value BZV55C62  Reference: D
62V, 500mW, 5%, Zener diode, MiniMELF; ki_fp_filters: D*MiniMELF*; Footprint: Diode_SMD:D_MiniMELF; Datasheet: https://assets.nexperia.com/documents/data-sheet/BZV55_SER.pdf; Description_: 62V, 500mW, 5%, Zener diode, MiniMELF; ki_keywords: zener diode
pins: 1 K, 2 A

## BZV55C68
designator *  value BZV55C68  Reference: D
68V, 500mW, 5%, Zener diode, MiniMELF; ki_fp_filters: D*MiniMELF*; Footprint: Diode_SMD:D_MiniMELF; Datasheet: https://assets.nexperia.com/documents/data-sheet/BZV55_SER.pdf; Description_: 68V, 500mW, 5%, Zener diode, MiniMELF; ki_keywords: zener diode
pins: 1 K, 2 A

## BZV55C75
designator *  value BZV55C75  Reference: D
75V, 500mW, 5%, Zener diode, MiniMELF; ki_fp_filters: D*MiniMELF*; Footprint: Diode_SMD:D_MiniMELF; Datasheet: https://assets.nexperia.com/documents/data-sheet/BZV55_SER.pdf; Description_: 75V, 500mW, 5%, Zener diode, MiniMELF; ki_keywords: zener diode
pins: 1 K, 2 A

## BZX84Cxx
designator *  value BZX84Cxx  Reference: D
300mW Zener Diode, SOT-23; ki_fp_filters: SOT?23*; Footprint: Package_TO_SOT_SMD:SOT-23; Datasheet: https://diotec.com/tl_files/diotec/files/pdf/datasheets/bzx84c2v4.pdf; Description_: 300mW Zener Diode, SOT-23; ki_keywords: zener diode
pins: 1 A, 2 NC, 3 K

## BZX384xxxx
designator *  value BZX384xxxx  Reference: D
300mW Zener Diode, SOD-323; ki_fp_filters: D*SOD*323*; Footprint: Diode_SMD:D_SOD-323; Datasheet: https://www.vishay.com/docs/85764/bzx384.pdf; Description_: 300mW Zener Diode, SOD-323; ki_keywords: zener diode
pins: 1 K, 2 A

## C3D1P7060Q
designator *  value C3D1P7060Q  Reference: D
600V, 1.7A, SiC Schottky Diode, QFN; ki_keywords: sic diode; ki_fp_filters: D*QFN*3.3x3.3mm*P0.65mm*; Footprint: Diode_SMD:D_QFN_3.3x3.3mm_P0.65mm; Datasheet: https://www.wolfspeed.com/media/downloads/846/C3D1P7060Q.pdf; Description_: 600V, 1.7A, SiC Schottky Diode, QFN
pins: 1 K, 2 A

## C3D02060A
designator *  value C3D02060A  Reference: D
600V, 2A, SiC Schottky Diode, TO-220; ki_keywords: sic diode; ki_fp_filters: TO?220*; Footprint: Package_TO_SOT_THT:TO-220-2_Vertical; Datasheet: https://www.wolfspeed.com/media/downloads/55/C3D02060A.pdf; Description_: 600V, 2A, SiC Schottky Diode, TO-220
pins: 1 K, 2 A

## C3D02060E
designator *  value C3D02060E  Reference: D
600V, 2A, SiC Schottky Diode, TO-252; ki_keywords: sic diode; ki_fp_filters: TO?252*TabPin1*; Footprint: Package_TO_SOT_SMD:TO-252-2_TabPin1; Datasheet: https://www.wolfspeed.com/media/downloads/116/C3D02060E.pdf; Description_: 600V, 2A, SiC Schottky Diode, TO-252
pins: 1 K, 2 A

## C3D02060F
designator *  value C3D02060F  Reference: D
600V, 2A, SiC Schottky Diode, TO-220F; ki_keywords: sic diode; ki_fp_filters: TO?220F*; Footprint: Package_TO_SOT_THT:TO-220F-2_Vertical; Datasheet: https://www.wolfspeed.com/media/downloads/35/C3D02060F.pdf; Description_: 600V, 2A, SiC Schottky Diode, TO-220F
pins: 1 K, 2 A

## C3D02065E
designator *  value C3D02065E  Reference: D
650V, 2A, SiC Schottky Diode, TO-252; ki_keywords: sic diode; ki_fp_filters: TO?252*TabPin1*; Footprint: Package_TO_SOT_SMD:TO-252-2_TabPin1; Datasheet: https://www.wolfspeed.com/media/downloads/118/C3D02065E.pdf; Description_: 650V, 2A, SiC Schottky Diode, TO-252
pins: 1 K, 2 A

## C3D03060A
designator *  value C3D03060A  Reference: D
600V, 3A, SiC Schottky Diode, TO-220; ki_keywords: sic diode; ki_fp_filters: TO?220*; Footprint: Package_TO_SOT_THT:TO-220-2_Vertical; Datasheet: https://www.wolfspeed.com/media/downloads/57/C3D03060A.pdf; Description_: 600V, 3A, SiC Schottky Diode, TO-220
pins: 1 K, 2 A

## C3D03060E
designator *  value C3D03060E  Reference: D
600V, 3A, SiC Schottky Diode, TO-252; ki_keywords: sic diode; ki_fp_filters: TO?252*TabPin1*; Footprint: Package_TO_SOT_SMD:TO-252-2_TabPin1; Datasheet: https://www.wolfspeed.com/media/downloads/119/C3D03060E.pdf; Description_: 600V, 3A, SiC Schottky Diode, TO-252
pins: 1 K, 2 A

## C3D03060F
designator *  value C3D03060F  Reference: D
600V, 3A, SiC Schottky Diode, TO-220F; ki_keywords: sic diode; ki_fp_filters: TO?220F*; Footprint: Package_TO_SOT_THT:TO-220F-2_Vertical; Datasheet: https://www.wolfspeed.com/media/downloads/39/C3D03060F.pdf; Description_: 600V, 3A, SiC Schottky Diode, TO-220F
pins: 1 K, 2 A

## C3D03065E
designator *  value C3D03065E  Reference: D
650V, 3A, SiC Schottky Diode, TO-252; ki_keywords: sic diode; ki_fp_filters: TO?252*TabPin1*; Footprint: Package_TO_SOT_SMD:TO-252-2_TabPin1; Datasheet: https://www.wolfspeed.com/media/downloads/121/C3D03065E.pdf; Description_: 650V, 3A, SiC Schottky Diode, TO-252
pins: 1 K, 2 A

## C3D04060A
designator *  value C3D04060A  Reference: D
600V, 4A, SiC Schottky Diode, TO-220; ki_keywords: sic diode; ki_fp_filters: TO?220*; Footprint: Package_TO_SOT_THT:TO-220-2_Vertical; Datasheet: https://www.wolfspeed.com/media/downloads/845/C3D04060A.pdf; Description_: 600V, 4A, SiC Schottky Diode, TO-220
pins: 1 K, 2 A

## C3D04060E
designator *  value C3D04060E  Reference: D
600V, 4A, SiC Schottky Diode, TO-252; ki_keywords: sic diode; ki_fp_filters: TO?252*TabPin1*; Footprint: Package_TO_SOT_SMD:TO-252-2_TabPin1; Datasheet: https://www.wolfspeed.com/media/downloads/122/C3D04060E.pdf; Description_: 600V, 4A, SiC Schottky Diode, TO-252
pins: 1 K, 2 A

## C3D04060F
designator *  value C3D04060F  Reference: D
600V, 4A, SiC Schottky Diode, TO-220F; ki_keywords: sic diode; ki_fp_filters: TO?220F*; Footprint: Package_TO_SOT_THT:TO-220F-2_Vertical; Datasheet: https://www.wolfspeed.com/media/downloads/41/C3D04060F.pdf; Description_: 600V, 4A, SiC Schottky Diode, TO-220F
pins: 1 K, 2 A

## C3D04065A
designator *  value C3D04065A  Reference: D
650V, 4A, SiC Schottky Diode, TO-220; ki_keywords: sic diode; ki_fp_filters: TO?220*; Footprint: Package_TO_SOT_THT:TO-220-2_Vertical; Datasheet: https://www.wolfspeed.com/media/downloads/841/C3D04065A.pdf; Description_: 650V, 4A, SiC Schottky Diode, TO-220
pins: 1 K, 2 A

## C3D04065E
designator *  value C3D04065E  Reference: D
650V, 4A, SiC Schottky Diode, TO-252; ki_keywords: sic diode; ki_fp_filters: TO?252*TabPin1*; Footprint: Package_TO_SOT_SMD:TO-252-2_TabPin1; Datasheet: https://www.wolfspeed.com/media/downloads/124/C3D04065E.pdf; Description_: 650V, 4A, SiC Schottky Diode, TO-252
pins: 1 K, 2 A

## C3D06060A
designator *  value C3D06060A  Reference: D
600V, 6A, SiC Schottky Diode, TO-220; ki_keywords: sic diode; ki_fp_filters: TO?220*; Footprint: Package_TO_SOT_THT:TO-220-2_Vertical; Datasheet: https://www.wolfspeed.com/media/downloads/844/C3D06060A.pdf; Description_: 600V, 6A, SiC Schottky Diode, TO-220
pins: 1 K, 2 A

## C3D06060F
designator *  value C3D06060F  Reference: D
600V, 6A, SiC Schottky Diode, TO-220F; ki_keywords: sic diode; ki_fp_filters: TO?220F*; Footprint: Package_TO_SOT_THT:TO-220F-2_Vertical; Datasheet: https://www.wolfspeed.com/media/downloads/43/C3D06060F.pdf; Description_: 600V, 6A, SiC Schottky Diode, TO-220F
pins: 1 K, 2 A

## C3D06060G
designator *  value C3D06060G  Reference: D
600V, 6A, SiC Schottky Diode, TO-263; ki_keywords: sic diode; ki_fp_filters: TO?263*TabPin1*; Footprint: Package_TO_SOT_SMD:TO-263-2_TabPin1; Datasheet: https://www.wolfspeed.com/media/downloads/137/C3D06060G.pdf; Description_: 600V, 6A, SiC Schottky Diode, TO-263
pins: 1 K, 2 A

## C3D06065A
designator *  value C3D06065A  Reference: D
650V, 6A, SiC Schottky Diode, TO-220; ki_keywords: sic diode; ki_fp_filters: TO?220*; Footprint: Package_TO_SOT_THT:TO-220-2_Vertical; Datasheet: https://www.wolfspeed.com/media/downloads/65/C3D06065A.pdf; Description_: 650V, 6A, SiC Schottky Diode, TO-220
pins: 1 K, 2 A

## C3D06065E
designator *  value C3D06065E  Reference: D
650V, 6A, SiC Schottky Diode, TO-252; ki_keywords: sic diode; ki_fp_filters: TO?252*TabPin1*; Footprint: Package_TO_SOT_SMD:TO-252-2_TabPin1; Datasheet: https://www.wolfspeed.com/media/downloads/125/C3D06065E.pdf; Description_: 650V, 6A, SiC Schottky Diode, TO-252
pins: 1 K, 2 A

## C3D06065I
designator *  value C3D06065I  Reference: D
650V, 6A, SiC Schottky Diode, Isolated TO-220; ki_keywords: sic diode; ki_fp_filters: TO?220*; Footprint: Package_TO_SOT_THT:TO-220-2_Vertical; Datasheet: https://www.wolfspeed.com/media/downloads/44/C3D06065I.pdf; Description_: 650V, 6A, SiC Schottky Diode, Isolated TO-220
pins: 1 K, 2 A

## C3D08060A
designator *  value C3D08060A  Reference: D
600V, 8A, SiC Schottky Diode, TO-220; ki_keywords: sic diode; ki_fp_filters: TO?220*; Footprint: Package_TO_SOT_THT:TO-220-2_Vertical; Datasheet: https://www.wolfspeed.com/media/downloads/843/C3D08060A.pdf; Description_: 600V, 8A, SiC Schottky Diode, TO-220
pins: 1 K, 2 A

## C3D08060G
designator *  value C3D08060G  Reference: D
600V, 8A, SiC Schottky Diode, TO-263; ki_keywords: sic diode; ki_fp_filters: TO?263*TabPin1*; Footprint: Package_TO_SOT_SMD:TO-263-2_TabPin1; Datasheet: https://www.wolfspeed.com/media/downloads/141/C3D08060G.pdf; Description_: 600V, 8A, SiC Schottky Diode, TO-263
pins: 1 K, 2 A

## C3D08065A
designator *  value C3D08065A  Reference: D
650V, 8A, SiC Schottky Diode, TO-220; ki_keywords: sic diode; ki_fp_filters: TO?220*; Footprint: Package_TO_SOT_THT:TO-220-2_Vertical; Datasheet: https://www.wolfspeed.com/media/downloads/840/C3D08065A.pdf; Description_: 650V, 8A, SiC Schottky Diode, TO-220
pins: 1 K, 2 A

## C3D08065E
designator *  value C3D08065E  Reference: D
650V, 8A, SiC Schottky Diode, TO-252; ki_keywords: sic diode; ki_fp_filters: TO?252*TabPin1*; Footprint: Package_TO_SOT_SMD:TO-252-2_TabPin1; Datasheet: https://www.wolfspeed.com/media/downloads/839/C3D08065E.pdf; Description_: 650V, 8A, SiC Schottky Diode, TO-252
pins: 1 K, 2 A

## C3D08065I
designator *  value C3D08065I  Reference: D
650V, 8A, SiC Schottky Diode, Isolated TO-220; ki_keywords: sic diode; ki_fp_filters: TO?220*; Footprint: Package_TO_SOT_THT:TO-220-2_Vertical; Datasheet: https://www.wolfspeed.com/media/downloads/47/C3D08065I.pdf; Description_: 650V, 8A, SiC Schottky Diode, Isolated TO-220
pins: 1 K, 2 A

## C3D10060A
designator *  value C3D10060A  Reference: D
600V, 10A, SiC Schottky Diode, TO-220; ki_keywords: sic diode; ki_fp_filters: TO?220*; Footprint: Package_TO_SOT_THT:TO-220-2_Vertical; Datasheet: https://www.wolfspeed.com/media/downloads/842/C3D10060A.pdf; Description_: 600V, 10A, SiC Schottky Diode, TO-220
pins: 1 K, 2 A

## C3D10060G
designator *  value C3D10060G  Reference: D
600V, 10A, SiC Schottky Diode, TO-263; ki_keywords: sic diode; ki_fp_filters: TO?263*TabPin1*; Footprint: Package_TO_SOT_SMD:TO-263-2_TabPin1; Datasheet: https://www.wolfspeed.com/media/downloads/143/C3D10060G.pdf; Description_: 600V, 10A, SiC Schottky Diode, TO-263
pins: 1 K, 2 A

## C3D10065A
designator *  value C3D10065A  Reference: D
650V, 10A, SiC Schottky Diode, TO-220; ki_keywords: sic diode; ki_fp_filters: TO?220*; Footprint: Package_TO_SOT_THT:TO-220-2_Vertical; Datasheet: https://www.wolfspeed.com/media/downloads/73/C3D10065A.pdf; Description_: 650V, 10A, SiC Schottky Diode, TO-220
pins: 1 K, 2 A

## C3D10065E
designator *  value C3D10065E  Reference: D
650V, 10A, SiC Schottky Diode, TO-252; ki_keywords: sic diode; ki_fp_filters: TO?252*TabPin1*; Footprint: Package_TO_SOT_SMD:TO-252-2_TabPin1; Datasheet: https://www.wolfspeed.com/media/downloads/127/C3D10065E.pdf; Description_: 650V, 10A, SiC Schottky Diode, TO-252
pins: 1 K, 2 A

## C3D10065I
designator *  value C3D10065I  Reference: D
650V, 10A, SiC Schottky Diode, Isolated TO-220; ki_keywords: sic diode; ki_fp_filters: TO?220*; Footprint: Package_TO_SOT_THT:TO-220-2_Vertical; Datasheet: https://www.wolfspeed.com/media/downloads/49/C3D10065I.pdf; Description_: 650V, 10A, SiC Schottky Diode, Isolated TO-220
pins: 1 K, 2 A

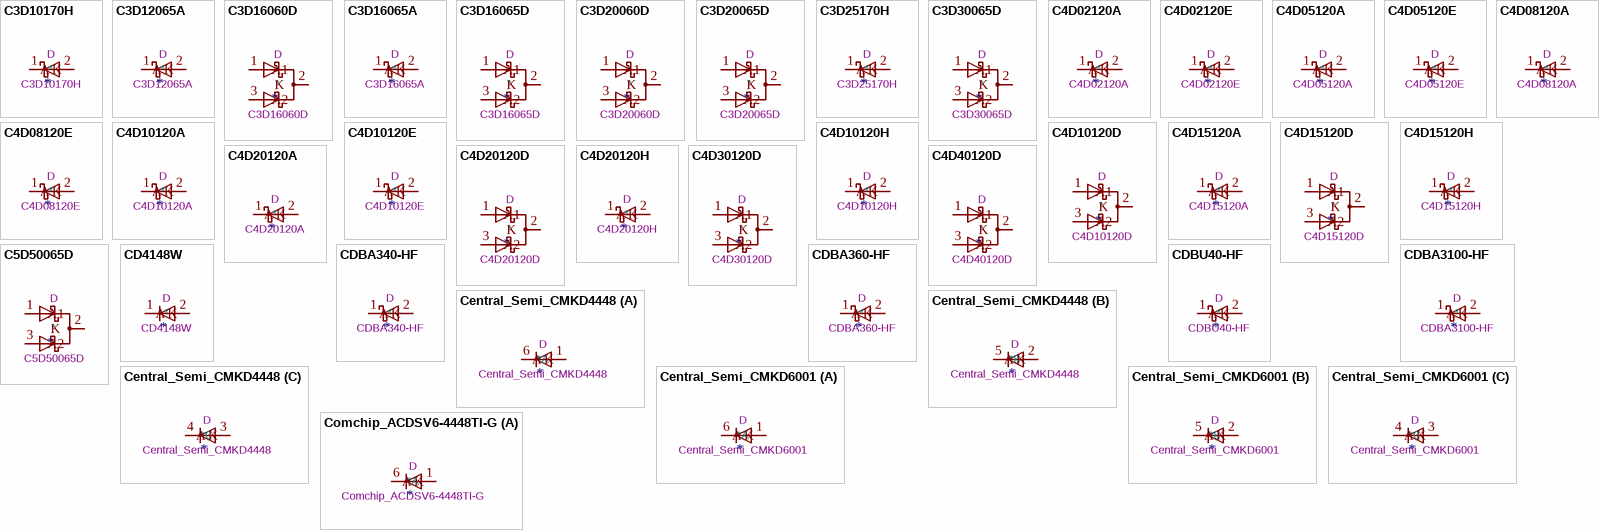
[diagram p7: symbols C3D10170H to Comchip_ACDSV6-4448TI-G]

## C3D10170H
designator *  value C3D10170H  Reference: D
1700V, 10A, SiC Schottky Diode, TO-247; ki_keywords: sic diode; ki_fp_filters: TO?247*; Footprint: Package_TO_SOT_THT:TO-247-2_Vertical; Datasheet: https://www.wolfspeed.com/media/downloads/96/C3D10170H.pdf; Description_: 1700V, 10A, SiC Schottky Diode, TO-247
pins: 1 K, 2 A

## C3D12065A
designator *  value C3D12065A  Reference: D
650V, 12A, SiC Schottky Diode, TO-220; ki_keywords: sic diode; ki_fp_filters: TO?220*; Footprint: Package_TO_SOT_THT:TO-220-2_Vertical; Datasheet: https://www.wolfspeed.com/media/downloads/963/C3D12065A.pdf; Description_: 650V, 12A, SiC Schottky Diode, TO-220
pins: 1 K, 2 A

## C3D16060D
designator *  value C3D16060D  Reference: D
600V, 16A, SiC Schottky Diode, TO-247-3; ki_keywords: sic diode; ki_fp_filters: TO?247*; Footprint: Package_TO_SOT_THT:TO-247-3_Vertical; Datasheet: https://www.wolfspeed.com/media/downloads/98/C3D16060D.pdf; Description_: 600V, 16A, SiC Schottky Diode, TO-247-3
pins: 1 A1, 2 K, 3 A2

## C3D16065A
designator *  value C3D16065A  Reference: D
650V, 16A, SiC Schottky Diode, TO-220; ki_keywords: sic diode; ki_fp_filters: TO?220*; Footprint: Package_TO_SOT_THT:TO-220-2_Vertical; Datasheet: https://www.wolfspeed.com/media/downloads/964/C3D16065A.pdf; Description_: 650V, 16A, SiC Schottky Diode, TO-220
pins: 1 K, 2 A

## C3D16065D
designator *  value C3D16065D  Reference: D
650V, 16A, SiC Schottky Diode, TO-247-3; ki_keywords: sic diode; ki_fp_filters: TO?247*; Footprint: Package_TO_SOT_THT:TO-247-3_Vertical; Datasheet: https://www.wolfspeed.com/media/downloads/99/C3D16065D.pdf; Description_: 650V, 16A, SiC Schottky Diode, TO-247-3
pins: 1 A1, 2 K, 3 A2

## C3D20060D
designator *  value C3D20060D  Reference: D
600V, 20A, SiC Schottky Diode, TO-247-3; ki_keywords: sic diode; ki_fp_filters: TO?247*; Footprint: Package_TO_SOT_THT:TO-247-3_Vertical; Datasheet: https://www.wolfspeed.com/media/downloads/100/C3D20060D.pdf; Description_: 600V, 20A, SiC Schottky Diode, TO-247-3
pins: 1 A1, 2 K, 3 A2

## C3D20065D
designator *  value C3D20065D  Reference: D
650V, 20A, SiC Schottky Diode, TO-247-3; ki_keywords: sic diode; ki_fp_filters: TO?247*; Footprint: Package_TO_SOT_THT:TO-247-3_Vertical; Datasheet: https://www.wolfspeed.com/media/downloads/102/C3D20065D.pdf; Description_: 650V, 20A, SiC Schottky Diode, TO-247-3
pins: 1 A1, 2 K, 3 A2

## C3D25170H
designator *  value C3D25170H  Reference: D
1700V, 25A, SiC Schottky Diode, TO-247; ki_keywords: sic diode; ki_fp_filters: TO?247*; Footprint: Package_TO_SOT_THT:TO-247-2_Vertical; Datasheet: https://www.wolfspeed.com/media/downloads/103/C3D25170H.pdf; Description_: 1700V, 25A, SiC Schottky Diode, TO-247
pins: 1 K, 2 A

## C3D30065D
designator *  value C3D30065D  Reference: D
650V, 30A, SiC Schottky Diode, TO-247-3; ki_keywords: sic diode; ki_fp_filters: TO?247*; Footprint: Package_TO_SOT_THT:TO-247-3_Vertical; Datasheet: https://www.wolfspeed.com/media/downloads/969/C3D30065D.pdf; Description_: 650V, 30A, SiC Schottky Diode, TO-247-3
pins: 1 A1, 2 K, 3 A2

## C4D02120A
designator *  value C4D02120A  Reference: D
1200V, 2A, SiC Schottky Diode, TO-220; ki_keywords: sic diode; ki_fp_filters: TO?220*; Footprint: Package_TO_SOT_THT:TO-220-2_Vertical; Datasheet: https://www.wolfspeed.com/media/downloads/75/C4D02120A.pdf; Description_: 1200V, 2A, SiC Schottky Diode, TO-220
pins: 1 K, 2 A

## C4D02120E
designator *  value C4D02120E  Reference: D
1200V, 2A, SiC Schottky Diode, TO-252; ki_keywords: sic diode; ki_fp_filters: TO?252*TabPin1*; Footprint: Package_TO_SOT_SMD:TO-252-2_TabPin1; Datasheet: https://www.wolfspeed.com/media/downloads/128/C4D02120E.pdf; Description_: 1200V, 2A, SiC Schottky Diode, TO-252
pins: 1 K, 2 A

## C4D05120A
designator *  value C4D05120A  Reference: D
1200V, 5A, SiC Schottky Diode, TO-220; ki_keywords: sic diode; ki_fp_filters: TO?220*; Footprint: Package_TO_SOT_THT:TO-220-2_Vertical; Datasheet: https://www.wolfspeed.com/media/downloads/77/C4D05120A.pdf; Description_: 1200V, 5A, SiC Schottky Diode, TO-220
pins: 1 K, 2 A

## C4D05120E
designator *  value C4D05120E  Reference: D
1200V, 5A, SiC Schottky Diode, TO-252; ki_keywords: sic diode; ki_fp_filters: TO?252*TabPin1*; Footprint: Package_TO_SOT_SMD:TO-252-2_TabPin1; Datasheet: https://www.wolfspeed.com/media/downloads/130/C4D05120E.pdf; Description_: 1200V, 5A, SiC Schottky Diode, TO-252
pins: 1 K, 2 A

## C4D08120A
designator *  value C4D08120A  Reference: D
1200V, 8A, SiC Schottky Diode, TO-220; ki_keywords: sic diode; ki_fp_filters: TO?220*; Footprint: Package_TO_SOT_THT:TO-220-2_Vertical; Datasheet: https://www.wolfspeed.com/media/downloads/80/C4D08120A.pdf; Description_: 1200V, 8A, SiC Schottky Diode, TO-220
pins: 1 K, 2 A

## C4D08120E
designator *  value C4D08120E  Reference: D
1200V, 8A, SiC Schottky Diode, TO-252; ki_keywords: sic diode; ki_fp_filters: TO?252*TabPin1*; Footprint: Package_TO_SOT_SMD:TO-252-2_TabPin1; Datasheet: https://www.wolfspeed.com/media/downloads/132/C4D08120E.pdf; Description_: 1200V, 8A, SiC Schottky Diode, TO-252
pins: 1 K, 2 A

## C4D10120A
designator *  value C4D10120A  Reference: D
1200V, 10A, SiC Schottky Diode, TO-220; ki_keywords: sic diode; ki_fp_filters: TO?220*; Footprint: Package_TO_SOT_THT:TO-220-2_Vertical; Datasheet: https://www.wolfspeed.com/media/downloads/82/C4D10120A.pdf; Description_: 1200V, 10A, SiC Schottky Diode, TO-220
pins: 1 K, 2 A

## C4D10120D
designator *  value C4D10120D  Reference: D
1200V, 10A, SiC Schottky Diode, TO-247-3; ki_keywords: sic diode; ki_fp_filters: TO?247*; Footprint: Package_TO_SOT_THT:TO-247-3_Vertical; Datasheet: https://www.wolfspeed.com/media/downloads/104/C4D10120D.pdf; Description_: 1200V, 10A, SiC Schottky Diode, TO-247-3
pins: 1 A1, 2 K, 3 A2

## C4D10120E
designator *  value C4D10120E  Reference: D
1200V, 10A, SiC Schottky Diode, TO-252; ki_keywords: sic diode; ki_fp_filters: TO?252*TabPin1*; Footprint: Package_TO_SOT_SMD:TO-252-2_TabPin1; Datasheet: https://www.wolfspeed.com/media/downloads/134/C4D10120E.pdf; Description_: 1200V, 10A, SiC Schottky Diode, TO-252
pins: 1 K, 2 A

## C4D10120H
designator *  value C4D10120H  Reference: D
1200V, 10A, SiC Schottky Diode, TO-247; ki_keywords: sic diode; ki_fp_filters: TO?247*; Footprint: Package_TO_SOT_THT:TO-247-2_Vertical; Datasheet: https://www.wolfspeed.com/media/downloads/1189/C4D10120H.pdf; Description_: 1200V, 10A, SiC Schottky Diode, TO-247
pins: 1 K, 2 A

## C4D15120A
designator *  value C4D15120A  Reference: D
1200V, 15A, SiC Schottky Diode, TO-220; ki_keywords: sic diode; ki_fp_filters: TO?220*; Footprint: Package_TO_SOT_THT:TO-220-2_Vertical; Datasheet: https://www.wolfspeed.com/media/downloads/84/C4D15120A.pdf; Description_: 1200V, 15A, SiC Schottky Diode, TO-220
pins: 1 K, 2 A

## C4D15120D
designator *  value C4D15120D  Reference: D
1200V, 15A, SiC Schottky Diode, TO-247-3; ki_keywords: sic diode; ki_fp_filters: TO?247*; Footprint: Package_TO_SOT_THT:TO-247-3_Vertical; Datasheet: https://www.wolfspeed.com/media/downloads/848/C4D15120D.pdf; Description_: 1200V, 15A, SiC Schottky Diode, TO-247-3
pins: 1 A1, 2 K, 3 A2

## C4D15120H
designator *  value C4D15120H  Reference: D
1200V, 15A, SiC Schottky Diode, TO-247; ki_keywords: sic diode; ki_fp_filters: TO?247*; Footprint: Package_TO_SOT_THT:TO-247-2_Vertical; Datasheet: https://www.wolfspeed.com/media/downloads/1190/C4D15120H.pdf; Description_: 1200V, 15A, SiC Schottky Diode, TO-247
pins: 1 K, 2 A

## C4D20120A
designator *  value C4D20120A  Reference: D
1200V, 20A, SiC Schottky Diode, TO-220; ki_keywords: sic diode; ki_fp_filters: TO?220*; Footprint: Package_TO_SOT_THT:TO-220-2_Vertical; Datasheet: https://www.wolfspeed.com/media/downloads/85/C4D20120A.pdf; Description_: 1200V, 20A, SiC Schottky Diode, TO-220
pins: 1 K, 2 A

## C4D20120D
designator *  value C4D20120D  Reference: D
1200V, 20A, SiC Schottky Diode, TO-247-3; ki_keywords: sic diode; ki_fp_filters: TO?247*; Footprint: Package_TO_SOT_THT:TO-247-3_Vertical; Datasheet: https://www.wolfspeed.com/media/downloads/106/C4D20120D.pdf; Description_: 1200V, 20A, SiC Schottky Diode, TO-247-3
pins: 1 A1, 2 K, 3 A2

## C4D20120H
designator *  value C4D20120H  Reference: D
1200V, 20A, SiC Schottky Diode, TO-247; ki_keywords: sic diode; ki_fp_filters: TO?247*; Footprint: Package_TO_SOT_THT:TO-247-2_Vertical; Datasheet: https://www.wolfspeed.com/media/downloads/1191/C4D20120H.pdf; Description_: 1200V, 20A, SiC Schottky Diode, TO-247
pins: 1 K, 2 A

## C4D30120D
designator *  value C4D30120D  Reference: D
1200V, 30A, SiC Schottky Diode, TO-247-3; ki_keywords: sic diode; ki_fp_filters: TO?247*; Footprint: Package_TO_SOT_THT:TO-247-3_Vertical; Datasheet: https://www.wolfspeed.com/media/downloads/108/C4D30120D.pdf; Description_: 1200V, 30A, SiC Schottky Diode, TO-247-3
pins: 1 A1, 2 K, 3 A2

## C4D40120D
designator *  value C4D40120D  Reference: D
1200V, 40A, SiC Schottky Diode, TO-247-3; ki_keywords: sic diode; ki_fp_filters: TO?247*; Footprint: Package_TO_SOT_THT:TO-247-3_Vertical; Datasheet: https://www.wolfspeed.com/media/downloads/109/C4D40120D.pdf; Description_: 1200V, 40A, SiC Schottky Diode, TO-247-3
pins: 1 A1, 2 K, 3 A2